# EAGLE library part CP2102N-QFN24 (library microBackpackLib)
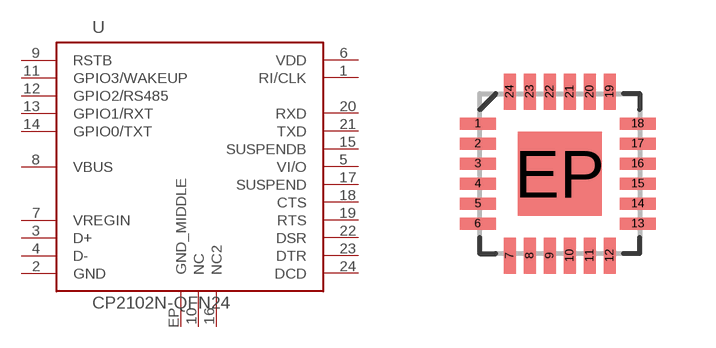
[diagram p0: symbol with the pads of QFN-24_ALT2; footprint QFN-24_ALT2]

Designator prefix U

## CP2102N-QFN24  [QFN-24_ALT2]
1  RI/CLK
2  GND
3  D+
4  D-
5  VI/O
6  VDD
7  VREGIN
8  VBUS
9  RSTB
10  NC
11  GPIO3/WAKEUP
12  GPIO2/RS485
13  GPIO1/RXT
14  GPIO0/TXT
15  SUSPENDB
16  NC2
17  SUSPEND
18  CTS
19  RTS
20  RXD
21  TXD
22  DSR
23  DTR
24  DCD
EP  GND_MIDDLE

## Footprint QFN-24_ALT2 (pad centres in mm)
24-pin QFN with Exposed Thermal pad Parts that use this package: A6282 Last modified: 8/20/10 ***UNPROVEN***
smd 0.9 x 0.3: 1 -2.05,1.25; 2 -2.05,0.75; 3 -2.05,0.25; 4 -2.05,-0.25; 5 -2.05,-0.75; 6 -2.05,-1.25; 13 1.95,-1.25; 14 1.95,-0.75; 15 1.95,-0.25; 16 1.95,0.25; 17 1.95,0.75; 18 1.95,1.25
smd 0.3 x 0.9: 7 -1.25,-2.05; 8 -0.75,-2.05; 9 -0.25,-2.05; 10 0.25,-2.05; 11 0.75,-2.05; 12 1.25,-2.05; 19 1.25,2.05; 20 0.75,2.05; 21 0.25,2.05; 22 -0.25,2.05; 23 -0.75,2.05; 24 -1.25,2.05
smd 2.1 x 2.1: EP 0,0